# EAGLE library part LM393D (library LM393D)
LM393D, Dual Comparator Open Collector 1.3us 12 V, 15 V, 18 V, 24 V, 28 V, 3 V, 5 V, 9 V 8-Pin SO Source: Datasheet <http://www.st.com/st-web-ui/static/active/en/resource/technical/document/datasheet/CD00000465.pdf>
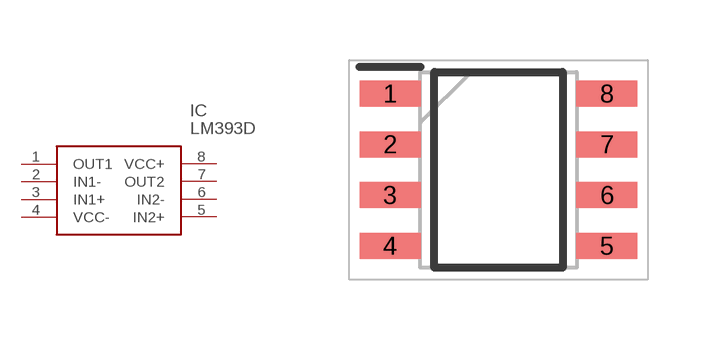
[diagram p0: symbol with the pads of SOIC127P600X175-8N; footprint SOIC127P600X175-8N]

Designator prefix IC

## LM393D (Description: LM393D, Dual Comparator Open Collector 1.3us 12 V, 15 V, 18 V, 24 V, 28 V, 3 V, 5 V, 9 V 8-Pin SO; Height: 1.75mm; Manufacturer_Name: STMicroelectronics; Manufacturer_Part_Number: LM393D; Mouser_Part_Number: 511-LM393D; Mouser_Price-Stock: https://www.mouser.co.uk/ProductDetail/STMicroelectronics/LM393D?qs=htKRmzjvioSpfPyLiLnV1A%3D%3D)  [SOIC127P600X175-8N]
1  OUT1
2  IN1-
3  IN1+
4  VCC-
5  IN2+
6  IN2-
7  OUT2
8  VCC+

## Footprint SOIC127P600X175-8N (pad centres in mm)
SO8 package mechanical*
smd 1.525 x 0.65: 1 -2.712,1.905; 2 -2.712,0.635; 3 -2.712,-0.635; 4 -2.712,-1.905; 5 2.712,-1.905; 6 2.712,-0.635; 7 2.712,0.635; 8 2.712,1.905